# EAGLE library part LM358 (library NASA_LIB)
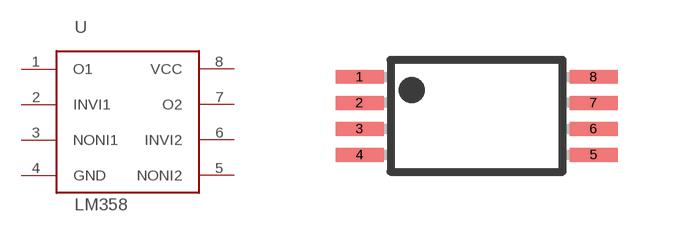
[diagram p13: symbol with the pads of TSSOP-8; footprint TSSOP-8]

Designator prefix -

## LM358  [TSSOP-8]
1  O1
2  INVI1
3  NONI1
4  GND
5  NONI2
6  INVI2
7  O2
8  VCC

## Footprint TSSOP-8 (pad centres in mm)
smd 1.2 x 0.35: 1 -2.925,0.975; 2 -2.925,0.325; 3 -2.925,-0.325; 4 -2.925,-0.975; 5 2.925,-0.975; 6 2.925,-0.325; 7 2.925,0.325; 8 2.925,0.975